# Altium footprint library YAAL-Expansion.PcbLib: 7 footprints
Each footprint in its own frame and in the unit in brackets; x right, y up, seen from the top. Pads: shape width x height; smd on the part's side, far side on the other; paste and mask are expansions set on the pad; w line width, h text height; cw(c..) or ccw(c..) is an arc to the next point about the centre after c.
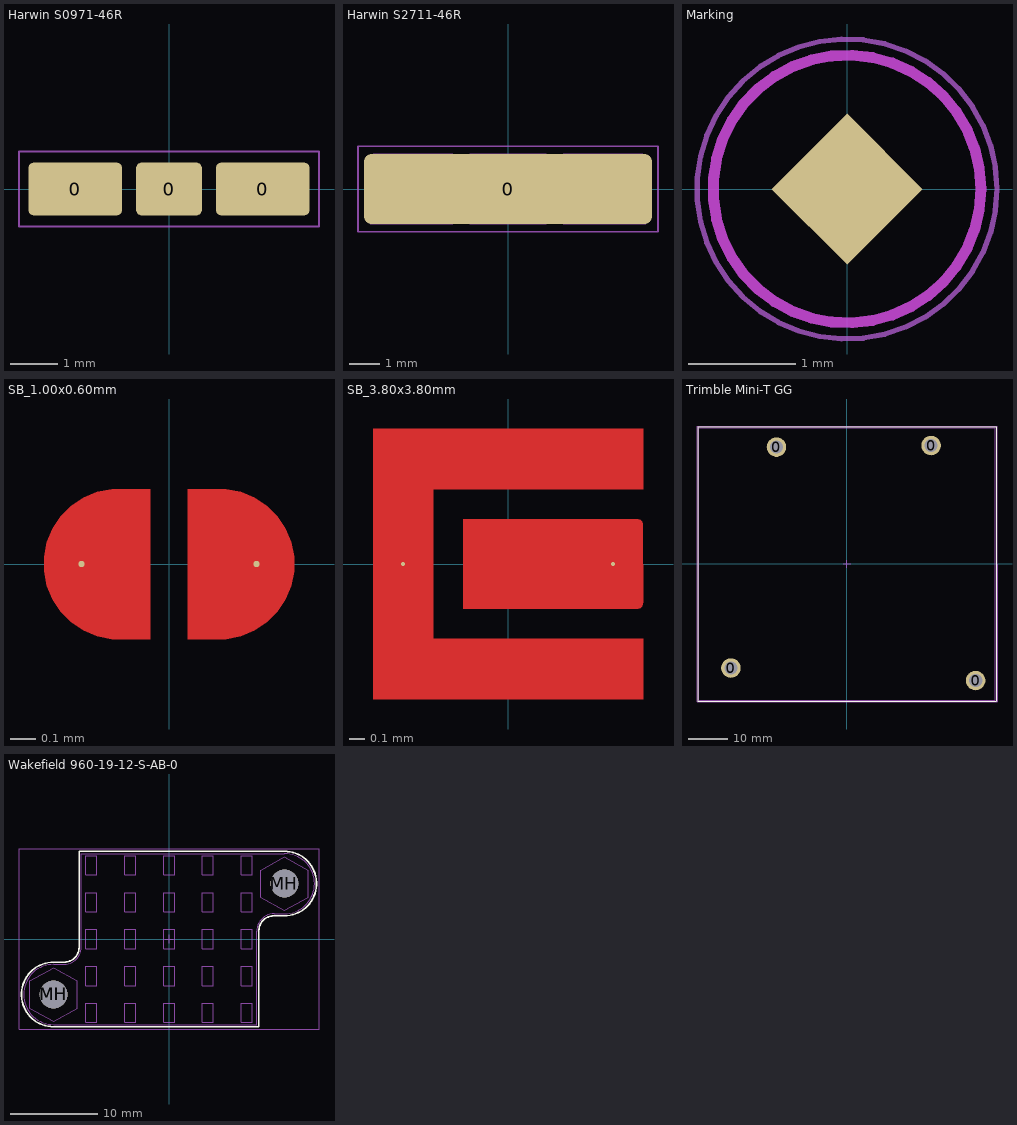
[diagram p0: the footprints below, top view; thin cyan lines are the x and y axes]

## Harwin S0971-46R [mm] "Harwin EMI Shield Mounting Clip, 5.80x1.00mm"
height 2.1
pads (3):
  rrect20% 2x1.125 smd: 0(-2,0) 0(2,0)
  rrect20% 1.4x1.125 smd: 0(0,0)
Mechanical 15:
  lines w0.05: -3.2,-0.8 3.2,-0.8 3.2,0.8 -3.2,0.8 -3.2,-0.8
  lines w0.1: -0.5,0 0.5,0 ; 0,-0.5 0,0.5
3D body "Harwin_S0971-46.STEP": height 2, standoff 0, extent -2.9,-0.5 2.9,0.5

## Harwin S2711-46R [mm] "Harwin EMI Shield Mounting Clip, 8.79x2.28mm"
height 3.55
pads (1):
  rrect20% 9.4x2.28 smd: 0(0,0)
Mechanical 1:
  lines w0.05: -4.394,-1.14 -4.394,1.14 -1.8,1.14 -1.8,0.05 -4.394,0.05 ; -4.394,-0.94 -4.494,-0.94 -4.494,-1.14 -1.8,-1.14 -1.8,-0.05 -4.394,-0.05 ; -4.394,-0.86 ccw(c-4.121,-0.826) -4.094,-1.1 -2.1,-1.1 ccw(c-2.073,-0.826) -1.8,-0.86 ; -4.394,0.86 cw(c-4.121,0.826) -4.094,1.1 -2.1,1.1 cw(c-2.073,0.826) -1.8,0.86 ; -3.747,-0.05 -3.75,0 -3.747,0.05 ; -1.973,-0.05 -1.97,0 -1.973,0.05 ; -1.8,-0.64 cw(c-1.65,-0.64) -1.5,-0.64 -1.5,-0.84 ccw(c-1.2,-0.84) -1.2,-1.14 1.2,-1.14 ccw(c1.2,-0.84) 1.5,-0.84 1.5,-0.64 cw(c1.65,-0.64) 1.8,-0.64 ; -1.8,0.64 ccw(c-1.65,0.64) -1.5,0.64 -1.5,0.84 cw(c-1.2,0.84) -1.2,1.14 1.2,1.14 cw(c1.2,0.84) 1.5,0.84 1.5,0.64 ccw(c1.65,0.64) 1.8,0.64 ; 1.8,-0.86 ccw(c2.073,-0.826) 2.1,-1.1 4.094,-1.1 ccw(c4.121,-0.826) 4.394,-0.86 ; 1.8,0.86 cw(c2.073,0.826) 2.1,1.1 4.094,1.1 cw(c4.121,0.826) 4.394,0.86 ; 1.973,-0.05 1.97,0 1.973,0.05 ; 3.747,-0.05 3.75,0 3.747,0.05 ; 4.394,-1.14 4.394,1.14 1.8,1.14 1.8,0.05 4.394,0.05 ; 4.394,-0.94 4.494,-0.94 4.494,-1.14 1.8,-1.14 1.8,-0.05 4.394,-0.05
Mechanical 15:
  lines w0.05: -4.9,-1.4 4.9,-1.4 4.9,1.4 -4.9,1.4 -4.9,-1.4
  lines w0.1: -0.5,0 0.5,0 ; 0,-0.5 0,0.5
3D body "Harwin_S2711-46R.STEP": height 3.45, standoff 0, extent -4.494,-1.14 4.494,1.14

## Marking [mm] "Fiducial Mark, Diamond, 1 mm squared, 2.5 mm keep-out top layer"
pads (1):
  rect 1x1 smd rot 45 paste-1 mask+0: ""(0,0)
Top Layer keep-out:
  circle w0.1: c0,0 r1.25
Top Solder:
  region: 0,-1.25 -0.123,-1.25 -0.365,-1.202 -0.592,-1.108 -0.797,-0.971 -0.971,-0.797 -1.108,-0.592 -1.202,-0.365 -1.25,-0.123 -1.25,0 -1.25,0.123 -1.202,0.365 -1.108,0.592 -0.971,0.797 -0.797,0.971 -0.592,1.108 -0.365,1.202 -0.123,1.25 0,1.25 0.123,1.25 0.365,1.202 0.592,1.108 0.797,0.971 0.971,0.797 1.108,0.592 1.202,0.365 1.25,0.123 1.25,0 1.25,-0.123 1.202,-0.365 1.108,-0.592 0.971,-0.797 0.797,-0.971 0.592,-1.108 0.365,-1.202 0.123,-1.25
Mechanical 1:
  circle w0.1: c0,0 r1.25
Mechanical 15:
  circle w0.05: c0,0 r1.4

## SB_1.00x0.60mm [mil] "Solder Bridge Jumper, 1.00x0.60mm"
pads (2):
  round 1 smd paste-99999 mask+4: 1(-13.78,0) 2(13.78,0)
Top Layer:
  region: 19.68,0 19.68,-1.16 19.23,-3.45 18.34,-5.59 17.05,-7.53 15.4,-9.17 13.47,-10.47 11.32,-11.36 9.04,-11.81 7.87,-11.81 2.95,-11.81 2.95,11.81 7.87,11.81 9.04,11.81 11.32,11.36 13.47,10.47 15.4,9.17 17.05,7.53 18.34,5.59 19.23,3.45 19.68,1.16
  region: -19.68,0 -19.68,-1.16 -19.23,-3.45 -18.34,-5.59 -17.05,-7.53 -15.4,-9.17 -13.47,-10.47 -11.32,-11.36 -9.04,-11.81 -7.87,-11.81 -2.95,-11.81 -2.95,11.81 -7.87,11.81 -9.04,11.81 -11.32,11.36 -13.47,10.47 -15.4,9.17 -17.05,7.53 -18.34,5.59 -19.23,3.45 -19.68,1.16
Top Solder:
  region: -7.87,-15.75 -11.01,-15.75 -16.79,-13.35 -21.22,-8.92 -23.62,-3.13 -23.62,3.13 -21.22,8.92 -16.79,13.35 -11.01,15.75 -7.87,15.75 7.87,15.75 11.01,15.75 16.79,13.35 21.22,8.92 23.62,3.13 23.62,-3.13 21.22,-8.92 16.79,-13.35 11.01,-15.75 7.87,-15.75

## SB_3.80x3.80mm [mil] "Solder Bridge Jumper, 3.80x3.80mm"
pads (2):
  round 1 smd paste-99999 mask+4: 1(-27.56,0) 2(27.56,0)
Top Layer:
  region: -35.43,-35.43 35.43,-35.43 35.43,-19.68 -19.68,-19.68 -19.68,19.68 35.43,19.68 35.43,35.43 -35.43,35.43 -35.43,-10.24
  region: 33.86,-11.81 34.17,-11.81 34.75,-11.57 35.19,-11.13 35.43,-10.55 35.43,-10.24 35.43,10.24 35.43,10.55 35.19,11.13 34.75,11.57 34.17,11.81 33.86,11.81 -11.81,11.81 -11.81,-11.81 27.56,-11.81
Top Solder:
  rectangle: -39.37,-39.37 39.37,39.37

## Trimble Mini-T GG [mm] "Wrapper for Trimble Mini-T GG Module"
pads (4):
  round 5 hole 3.4: 0(-29.8,-26.7) 0(-18.1,30) 0(21.59,30.41) 0(33.02,-29.92)
Top Overlay:
  lines w0.2: -38.3,-35.2 -38.3,35.2 38.3,35.2 38.3,-35.2 -38.3,-35.2
Mechanical 1:
  lines w0.1: -38.1,-35 38.1,-35 38.1,35 -38.1,35 -38.1,-35
Mechanical 15:
  lines w0.05: -38.5,-35.4 -38.5,35.4 38.5,35.4 38.5,-35.4 -38.5,-35.4
  lines w0.1: -1,0 1,0 ; 0,-1 0,1

## Wakefield 960-19-12-S-AB-0 [mil] "Wakefield 960-Series Heatsink, Side Pins, 33.19x19.50mm"
height 472.44
pads (3):
  round 125 hole 125 unplated: MH(-518,-249) MH(-518,-249) MH(518,249)
Top Overlay:
  lines w7.87: -518,-393.71 cw(c-518,-249) -518,-104.29 -471.74,-104.29 ccw(c-471.87,-35.41) -402.99,-35.28 -402.99,393.71 518,393.71 cw(c518,249) 518,104.29 471.74,104.29 ccw(c471.87,35.41) 402.99,35.28 402.99,-393.71 -518,-393.71
Mechanical 1:
  lines w1.97: -624.3,-309.84 -624.3,-188.16 -518,-128.92 -411.7,-188.16 -411.7,-309.84 -518,-369.08 -624.3,-309.84 ; -518,-384 cw(c-518,-249) -518,-114 -471.74,-114 ccw(c-471.74,-35.26) -393,-35.26 -393,383.72 518.22,383.72 cw(c518.22,248.72) 518.22,113.72 471.96,113.72 ccw(c471.96,34.98) 393.22,34.98 393.22,-384 -518,-384 ; -373.31,-374.16 -373.31,-287.54 -324.1,-287.54 -324.1,-374.16 -373.31,-374.16 ; -373.31,-208.8 -373.31,-122.19 -324.1,-122.19 -324.1,-208.8 -373.31,-208.8 ; -373.31,-43.45 -373.31,43.17 -324.1,43.17 -324.1,-43.45 -373.31,-43.45 ; -373.31,121.91 -373.31,208.52 -324.1,208.52 -324.1,121.91 -373.31,121.91 ; -373.31,287.26 -373.31,373.87 -324.1,373.87 -324.1,287.26 -373.31,287.26 ; -198.91,-374.16 -198.91,-287.54 -149.69,-287.54 -149.69,-374.16 -198.91,-374.16 ; -198.91,-208.8 -198.91,-122.19 -149.69,-122.19 -149.69,-208.8 -198.91,-208.8 ; -198.91,-43.45 -198.91,43.17 -149.69,43.17 -149.69,-43.45 -198.91,-43.45 ; -198.91,121.91 -198.91,208.52 -149.69,208.52 -149.69,121.91 -198.91,121.91 ; -198.91,287.26 -198.91,373.87 -149.69,373.87 -149.69,287.26 -198.91,287.26 ; -24.5,-374.16 -24.5,-287.54 24.72,-287.54 24.72,-374.16 -24.5,-374.16 ; -24.5,-208.8 -24.5,-122.19 24.72,-122.19 24.72,-208.8 -24.5,-208.8 ; -24.5,-43.45 -24.5,43.17 24.72,43.17 24.72,-43.45 -24.5,-43.45 ; -24.5,121.91 -24.5,208.52 24.72,208.52 24.72,121.91 -24.5,121.91 ; -24.5,287.26 -24.5,373.87 24.72,373.87 24.72,287.26 -24.5,287.26 ; 149.91,-374.16 149.91,-287.54 199.13,-287.54 199.13,-374.16 149.91,-374.16 ; 149.91,-208.8 149.91,-122.19 199.13,-122.19 199.13,-208.8 149.91,-208.8 ; 149.91,-43.45 149.91,43.17 199.13,43.17 199.13,-43.45 149.91,-43.45 ; 149.91,121.91 149.91,208.52 199.13,208.52 199.13,121.91 149.91,121.91 ; 149.91,287.26 149.91,373.87 199.13,373.87 199.13,287.26 149.91,287.26 ; 324.32,-374.16 324.32,-287.54 373.54,-287.54 373.54,-374.16 324.32,-374.16 ; 324.32,-208.8 324.32,-122.19 373.54,-122.19 373.54,-208.8 324.32,-208.8 ; 324.32,-43.45 324.32,43.17 373.54,43.17 373.54,-43.45 324.32,-43.45 ; 324.32,121.91 324.32,208.52 373.54,208.52 373.54,121.91 324.32,121.91 ; 324.32,287.26 324.32,373.87 373.54,373.87 373.54,287.26 324.32,287.26 ; 411.92,187.87 518.22,128.64 624.52,187.87 624.52,309.56 518.22,368.8 411.92,309.56 411.92,187.87
Mechanical 15:
  lines w1.97: -673.23,-405.51 -673.23,405.51 673.23,405.51 673.23,-405.51 -673.23,-405.51
  lines w3.94: -19.68,0 19.68,0 ; 0,-19.68 0,19.68
3D body "960-19-12-S-AB-0.STEP": height 570.87, standoff -127.95, extent -652.99,-383.99 653.23,383.72